# Altium footprint library OptoElectronics.PcbLib: 2 footprints
Each footprint in its own frame and in the unit in brackets; x right, y up, seen from the top. Pads: shape width x height; smd on the part's side, far side on the other; paste and mask are expansions set on the pad; w line width, h text height; cw(c..) or ccw(c..) is an arc to the next point about the centre after c.
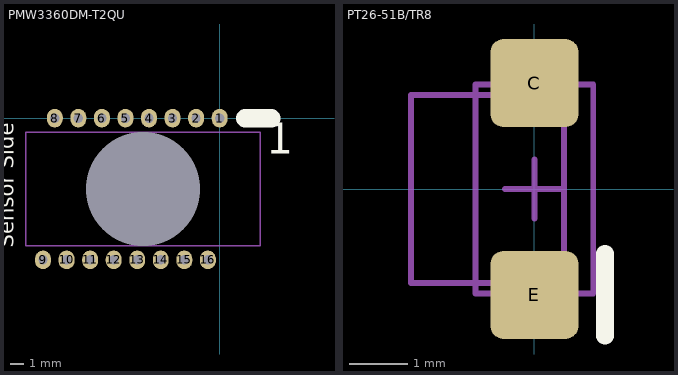
[diagram p0: the footprints below, top view; thin cyan lines are the x and y axes]

## PMW3360DM-T2QU [mm]
pads (17):
  oval 1.2x1.4 hole 0.7: 1(0,0) 2(-1.778,0) 3(-3.556,0) 4(-5.334,0) 5(-7.112,0) 6(-8.89,0) 7(-10.668,0) 8(-12.446,0) 9(-13.335,-10.7) 10(-11.557,-10.7) 11(-9.779,-10.7) 12(-8.001,-10.7) 13(-6.223,-10.7) 14(-4.445,-10.7) 15(-2.667,-10.7) 16(-0.889,-10.7)
  rect 0x0 hole 8.6 square unplated: ""(-5.8,-5.35)
Top Overlay:
  lines w1.4: 1.925,0 3.9,0
  text "Sensor Side" at -15.15,-9.8 h2
  text "1" at 3.5,-3.5 h4
Bottom Overlay:
  text "Optic Side" at -15.6,-1.475 h2
Board Outline:
  lines w0.1: -14.65,-9.65 -14.65,-1.05 3.05,-1.05 3.05,-9.65 -14.65,-9.65
3D body "PMW3360-LM19-LSI-Assembly.stp": height 2.44, standoff -6.06, extent -16.055,-14.759 5.095,4.091

## PT26-51B/TR8 [mm]
height 0.8
pads (2):
  rrect30% 1.5x1.5 smd paste-0.06: C(0,1.802) E(0,-1.802)
Top Overlay:
  lines w0.3: 1.2,-2.5 1.2,-1.1
Mechanical 13:
  lines w0.1: -2.1,-1.6 0.5,-1.6 0.5,1.6 -2.1,1.6 -2.1,-1.6
Mechanical 15:
  lines w0.1: -0.5,0 0.5,0 ; 0,-0.5 0,0.5 ; -1,-1.775 1,-1.775 1,1.775 -1,1.775 -1,-1.775
3D body "PT26-51B-TR8.stp": height 1.6, standoff 0, extent -2.05,-1.6 0.45,1.6